# Altium schematic symbol library XH.SchLib: 23 symbols
Pins are listed as number, name and electrical type; pins without a type are passive.

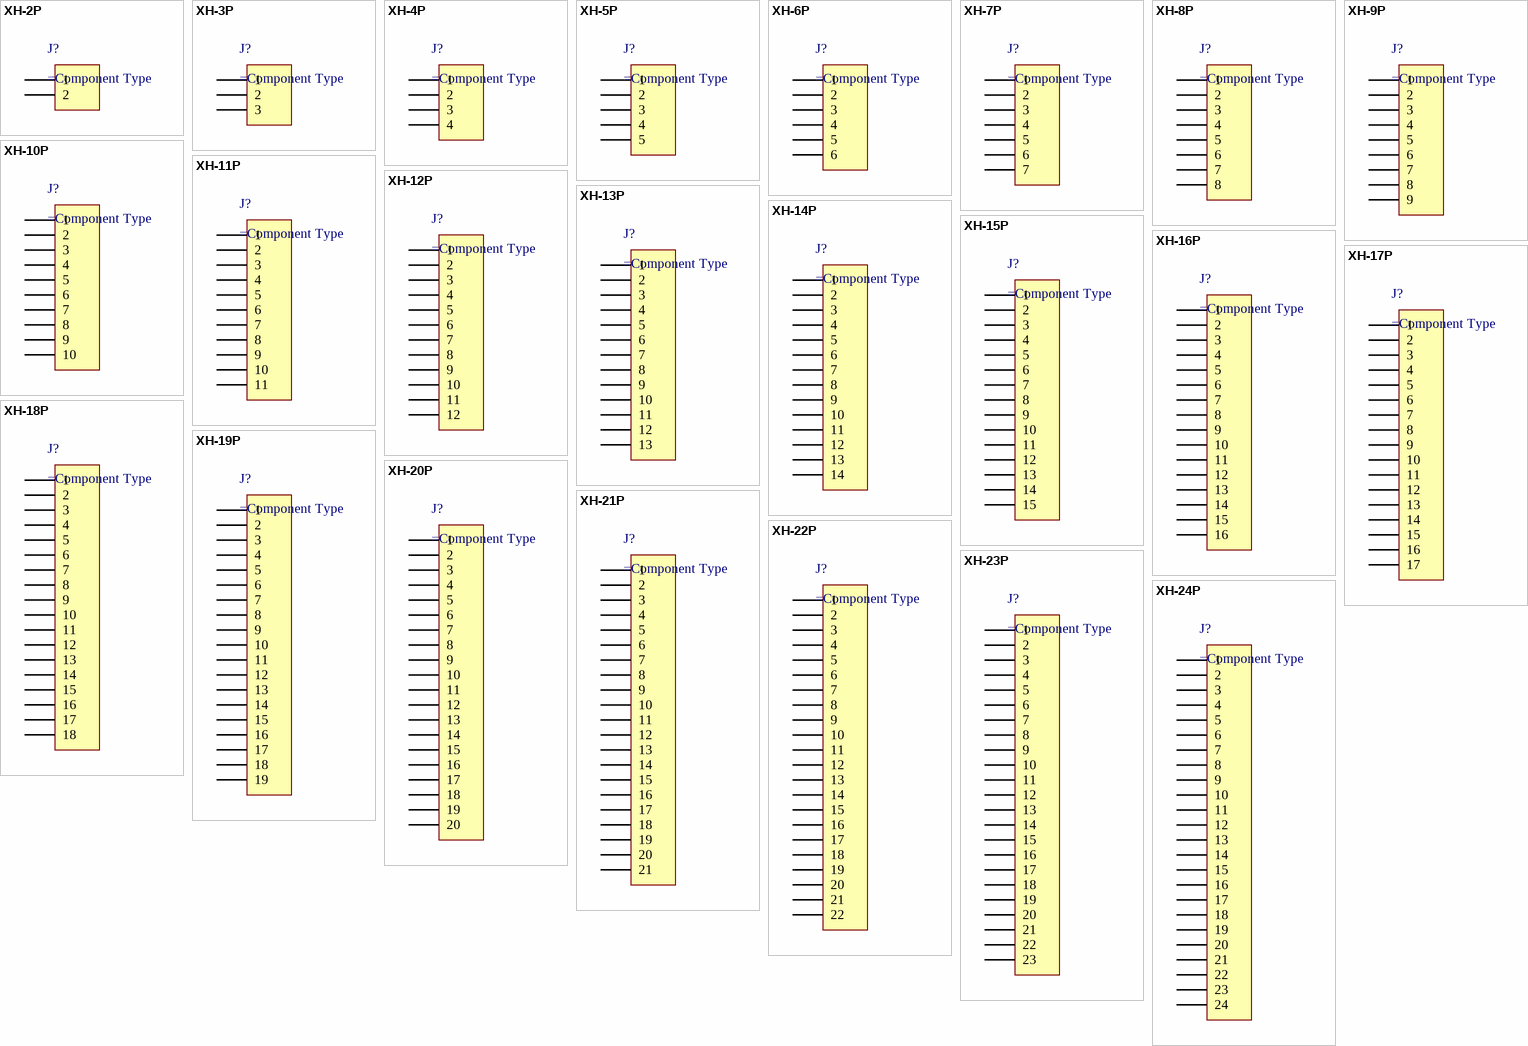
[diagram p0: symbols XH-2P to XH-24P]

## XH-2P
designator J?
pins: 1, 2

## XH-3P
designator J?
pins: 1, 2, 3

## XH-4P
designator J?
pins: 1, 2, 3, 4

## XH-5P
designator J?
pins: 1, 2, 3, 4, 5

## XH-6P
designator J?
pins: 1, 2, 3, 4, 5, 6

## XH-7P
designator J?
pins: 1, 2, 3, 4, 5, 6, 7

## XH-8P
designator J?
pins: 1, 2, 3, 4, 5, 6, 7, 8

## XH-9P
designator J?
pins: 1, 2, 3, 4, 5, 6, 7, 8, 9

## XH-10P
designator J?
pins: 1, 2, 3, 4, 5, 6, 7, 8, 9, 10

## XH-11P
designator J?
pins: 1, 2, 3, 4, 5, 6, 7, 8, 9, 10, 11

## XH-12P
designator J?
pins: 1, 2, 3, 4, 5, 6, 7, 8, 9, 10, 11, 12

## XH-13P
designator J?
pins: 1, 2, 3, 4, 5, 6, 7, 8, 9, 10, 11, 12, 13

## XH-14P
designator J?
pins: 1, 2, 3, 4, 5, 6, 7, 8, 9, 10, 11, 12, 13, 14

## XH-15P
designator J?
pins: 1, 2, 3, 4, 5, 6, 7, 8, 9, 10, 11, 12, 13, 14, 15

## XH-16P
designator J?
pins: 1, 2, 3, 4, 5, 6, 7, 8, 9, 10, 11, 12, 13, 14, 15, 16

## XH-17P
designator J?
pins: 1, 2, 3, 4, 5, 6, 7, 8, 9, 10, 11, 12, 13, 14, 15, 16, 17

## XH-18P
designator J?
pins: 1, 2, 3, 4, 5, 6, 7, 8, 9, 10, 11, 12, 13, 14, 15, 16, 17, 18

## XH-19P
designator J?
pins: 1, 2, 3, 4, 5, 6, 7, 8, 9, 10, 11, 12, 13, 14, 15, 16, 17, 18, 19

## XH-20P
designator J?
pins: 1, 2, 3, 4, 5, 6, 7, 8, 9, 10, 11, 12, 13, 14, 15, 16, 17, 18, 19, 20

## XH-21P
designator J?
pins: 1, 2, 3, 4, 5, 6, 7, 8, 9, 10, 11, 12, 13, 14, 15, 16, 17, 18, 19, 20, 21

## XH-22P
designator J?
pins: 1, 2, 3, 4, 5, 6, 7, 8, 9, 10, 11, 12, 13, 14, 15, 16, 17, 18, 19, 20, 21, 22

## XH-23P
designator J?
pins: 1, 2, 3, 4, 5, 6, 7, 8, 9, 10, 11, 12, 13, 14, 15, 16, 17, 18, 19, 20, 21, 22, 23

## XH-24P
designator J?
pins: 1, 2, 3, 4, 5, 6, 7, 8, 9, 10, 11, 12, 13, 14, 15, 16, 17, 18, 19, 20, 21, 22, 23, 24